# Altium schematic symbol library SCH - ARM Cortex - NXP LPC55S16JBD100.SchLib: 1 symbol
Pins are listed as number, name and electrical type; pins without a type are passive.

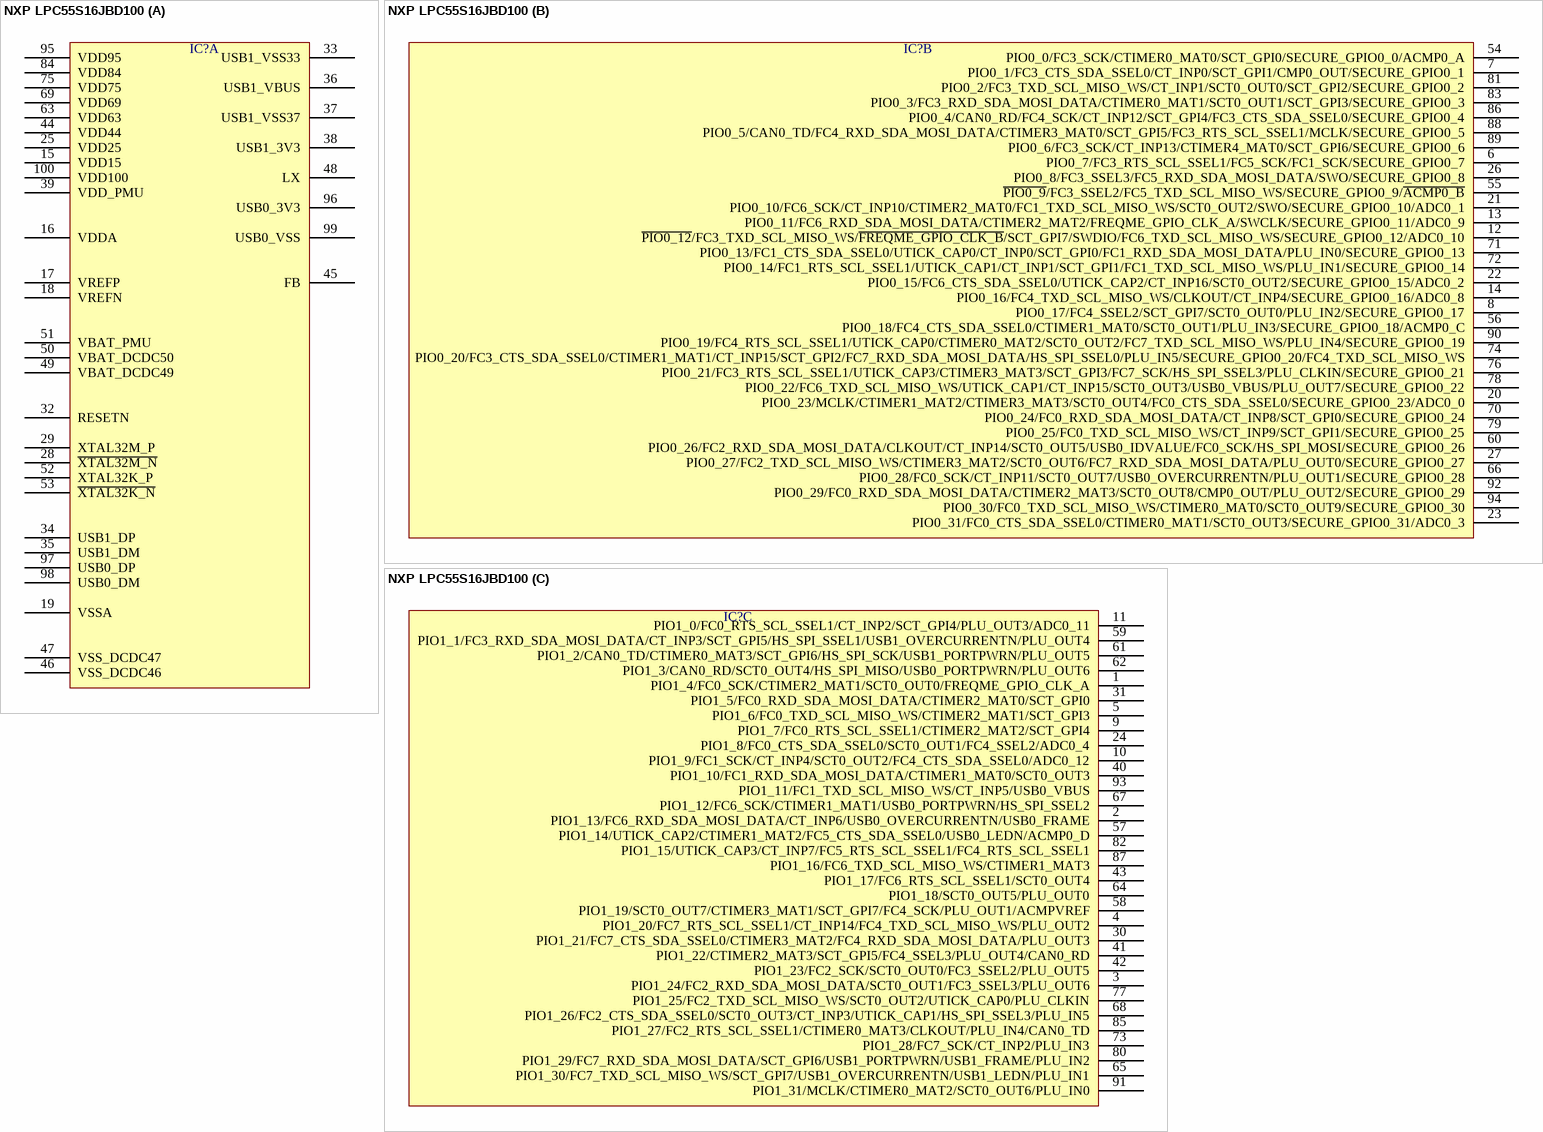
[diagram p0: symbol NXP LPC55S16JBD100]

## NXP LPC55S16JBD100
designator IC?  (value not drawn)
part A pins: 15 VDD15, 16 VDDA, 17 VREFP, 18 VREFN, 19 VSSA, 25 VDD25, 28 ~{XTAL32M_N}, 29 XTAL32M_P, 32 RESETN, 33 USB1_VSS33, 34 USB1_DP, 35 USB1_DM, 36 USB1_VBUS, 37 USB1_VSS37, 38 USB1_3V3, 39 VDD_PMU, 44 VDD44, 45 FB, 46 VSS_DCDC46, 47 VSS_DCDC47, 48 LX, 49 VBAT_DCDC49, 50 VBAT_DCDC50, 51 VBAT_PMU, 52 XTAL32K_P, 53 ~{XTAL32K_N}, 63 VDD63, 69 VDD69, 75 VDD75, 84 VDD84, 95 VDD95, 96 USB0_3V3, 97 USB0_DP, 98 USB0_DM, 99 USB0_VSS, 100 VDD100
part B pins: 6 PIO0_7/FC3_RTS_SCL_SSEL1/FC5_SCK/FC1_SCK/SECURE_GPIO0_7, 7 PIO0_1/FC3_CTS_SDA_SSEL0/CT_INP0/SCT_GPI1/CMP0_OUT/SECURE_GPIO0_1, 8 PIO0_17/FC4_SSEL2/SCT_GPI7/SCT0_OUT0/PLU_IN2/SECURE_GPIO0_17, 12 ~{PIO0_12}/FC3_TXD_SCL_MISO_WS/~{FREQME_GPIO_CLK_B}/SCT_GPI7/SWDIO/FC6_TXD_SCL_MISO_WS/SECURE_GPIO0_12/ADC0_10, 13 PIO0_11/FC6_RXD_SDA_MOSI_DATA/CTIMER2_MAT2/FREQME_GPIO_CLK_A/SWCLK/SECURE_GPIO0_11/ADC0_9, 14 PIO0_16/FC4_TXD_SCL_MISO_WS/CLKOUT/CT_INP4/SECURE_GPIO0_16/ADC0_8, 20 PIO0_23/MCLK/CTIMER1_MAT2/CTIMER3_MAT3/SCT0_OUT4/FC0_CTS_SDA_SSEL0/SECURE_GPIO0_23/ADC0_0, 21 PIO0_10/FC6_SCK/CT_INP10/CTIMER2_MAT0/FC1_TXD_SCL_MISO_WS/SCT0_OUT2/SWO/SECURE_GPIO0_10/ADC0_1, 22 PIO0_15/FC6_CTS_SDA_SSEL0/UTICK_CAP2/CT_INP16/SCT0_OUT2/SECURE_GPIO0_15/ADC0_2, 23 PIO0_31/FC0_CTS_SDA_SSEL0/CTIMER0_MAT1/SCT0_OUT3/SECURE_GPIO0_31/ADC0_3, 26 PIO0_8/FC3_SSEL3/FC5_RXD_SDA_MOSI_DATA/SWO/SECURE_GPIO0_8, 27 PIO0_27/FC2_TXD_SCL_MISO_WS/CTIMER3_MAT2/SCT0_OUT6/FC7_RXD_SDA_MOSI_DATA/PLU_OUT0/SECURE_GPIO0_27, 54 PIO0_0/FC3_SCK/CTIMER0_MAT0/SCT_GPI0/SECURE_GPIO0_0/ACMP0_A, 55 ~{PIO0_9}/FC3_SSEL2/FC5_TXD_SCL_MISO_WS/SECURE_GPIO0_9/~{ACMP0_B}, 56 PIO0_18/FC4_CTS_SDA_SSEL0/CTIMER1_MAT0/SCT0_OUT1/PLU_IN3/SECURE_GPIO0_18/ACMP0_C, 60 PIO0_26/FC2_RXD_SDA_MOSI_DATA/CLKOUT/CT_INP14/SCT0_OUT5/USB0_IDVALUE/FC0_SCK/HS_SPI_MOSI/SECURE_GPIO0_26, 66 PIO0_28/FC0_SCK/CT_INP11/SCT0_OUT7/USB0_OVERCURRENTN/PLU_OUT1/SECURE_GPIO0_28, 70 PIO0_24/FC0_RXD_SDA_MOSI_DATA/CT_INP8/SCT_GPI0/SECURE_GPIO0_24, 71 PIO0_13/FC1_CTS_SDA_SSEL0/UTICK_CAP0/CT_INP0/SCT_GPI0/FC1_RXD_SDA_MOSI_DATA/PLU_IN0/SECURE_GPIO0_13, 72 PIO0_14/FC1_RTS_SCL_SSEL1/UTICK_CAP1/CT_INP1/SCT_GPI1/FC1_TXD_SCL_MISO_WS/PLU_IN1/SECURE_GPIO0_14, 74 PIO0_20/FC3_CTS_SDA_SSEL0/CTIMER1_MAT1/CT_INP15/SCT_GPI2/FC7_RXD_SDA_MOSI_DATA/HS_SPI_SSEL0/PLU_IN5/SECURE_GPIO0_20/FC4_TXD_SCL_MISO_WS, 76 PIO0_21/FC3_RTS_SCL_SSEL1/UTICK_CAP3/CTIMER3_MAT3/SCT_GPI3/FC7_SCK/HS_SPI_SSEL3/PLU_CLKIN/SECURE_GPIO0_21, 78 PIO0_22/FC6_TXD_SCL_MISO_WS/UTICK_CAP1/CT_INP15/SCT0_OUT3/USB0_VBUS/PLU_OUT7/SECURE_GPIO0_22, 79 PIO0_25/FC0_TXD_SCL_MISO_WS/CT_INP9/SCT_GPI1/SECURE_GPIO0_25, 81 PIO0_2/FC3_TXD_SCL_MISO_WS/CT_INP1/SCT0_OUT0/SCT_GPI2/SECURE_GPIO0_2, 83 PIO0_3/FC3_RXD_SDA_MOSI_DATA/CTIMER0_MAT1/SCT0_OUT1/SCT_GPI3/SECURE_GPIO0_3, 86 PIO0_4/CAN0_RD/FC4_SCK/CT_INP12/SCT_GPI4/FC3_CTS_SDA_SSEL0/SECURE_GPIO0_4, 88 PIO0_5/CAN0_TD/FC4_RXD_SDA_MOSI_DATA/CTIMER3_MAT0/SCT_GPI5/FC3_RTS_SCL_SSEL1/MCLK/SECURE_GPIO0_5, 89 PIO0_6/FC3_SCK/CT_INP13/CTIMER4_MAT0/SCT_GPI6/SECURE_GPIO0_6, 90 PIO0_19/FC4_RTS_SCL_SSEL1/UTICK_CAP0/CTIMER0_MAT2/SCT0_OUT2/FC7_TXD_SCL_MISO_WS/PLU_IN4/SECURE_GPIO0_19, 92 PIO0_29/FC0_RXD_SDA_MOSI_DATA/CTIMER2_MAT3/SCT0_OUT8/CMP0_OUT/PLU_OUT2/SECURE_GPIO0_29, 94 PIO0_30/FC0_TXD_SCL_MISO_WS/CTIMER0_MAT0/SCT0_OUT9/SECURE_GPIO0_30
part C pins: 1 PIO1_4/FC0_SCK/CTIMER2_MAT1/SCT0_OUT0/FREQME_GPIO_CLK_A, 2 PIO1_13/FC6_RXD_SDA_MOSI_DATA/CT_INP6/USB0_OVERCURRENTN/USB0_FRAME, 3 PIO1_24/FC2_RXD_SDA_MOSI_DATA/SCT0_OUT1/FC3_SSEL3/PLU_OUT6, 4 PIO1_20/FC7_RTS_SCL_SSEL1/CT_INP14/FC4_TXD_SCL_MISO_WS/PLU_OUT2, 5 PIO1_6/FC0_TXD_SCL_MISO_WS/CTIMER2_MAT1/SCT_GPI3, 9 PIO1_7/FC0_RTS_SCL_SSEL1/CTIMER2_MAT2/SCT_GPI4, 10 PIO1_9/FC1_SCK/CT_INP4/SCT0_OUT2/FC4_CTS_SDA_SSEL0/ADC0_12, 11 PIO1_0/FC0_RTS_SCL_SSEL1/CT_INP2/SCT_GPI4/PLU_OUT3/ADC0_11, 24 PIO1_8/FC0_CTS_SDA_SSEL0/SCT0_OUT1/FC4_SSEL2/ADC0_4, 30 PIO1_21/FC7_CTS_SDA_SSEL0/CTIMER3_MAT2/FC4_RXD_SDA_MOSI_DATA/PLU_OUT3, 31 PIO1_5/FC0_RXD_SDA_MOSI_DATA/CTIMER2_MAT0/SCT_GPI0, 40 PIO1_10/FC1_RXD_SDA_MOSI_DATA/CTIMER1_MAT0/SCT0_OUT3, 41 PIO1_22/CTIMER2_MAT3/SCT_GPI5/FC4_SSEL3/PLU_OUT4/CAN0_RD, 42 PIO1_23/FC2_SCK/SCT0_OUT0/FC3_SSEL2/PLU_OUT5, 43 PIO1_17/FC6_RTS_SCL_SSEL1/SCT0_OUT4, 57 PIO1_14/UTICK_CAP2/CTIMER1_MAT2/FC5_CTS_SDA_SSEL0/USB0_LEDN/ACMP0_D, 58 PIO1_19/SCT0_OUT7/CTIMER3_MAT1/SCT_GPI7/FC4_SCK/PLU_OUT1/ACMPVREF, 59 PIO1_1/FC3_RXD_SDA_MOSI_DATA/CT_INP3/SCT_GPI5/HS_SPI_SSEL1/USB1_OVERCURRENTN/PLU_OUT4, 61 PIO1_2/CAN0_TD/CTIMER0_MAT3/SCT_GPI6/HS_SPI_SCK/USB1_PORTPWRN/PLU_OUT5, 62 PIO1_3/CAN0_RD/SCT0_OUT4/HS_SPI_MISO/USB0_PORTPWRN/PLU_OUT6, 64 PIO1_18/SCT0_OUT5/PLU_OUT0, 65 PIO1_30/FC7_TXD_SCL_MISO_WS/SCT_GPI7/USB1_OVERCURRENTN/USB1_LEDN/PLU_IN1, 67 PIO1_12/FC6_SCK/CTIMER1_MAT1/USB0_PORTPWRN/HS_SPI_SSEL2, 68 PIO1_26/FC2_CTS_SDA_SSEL0/SCT0_OUT3/CT_INP3/UTICK_CAP1/HS_SPI_SSEL3/PLU_IN5, 73 PIO1_28/FC7_SCK/CT_INP2/PLU_IN3, 77 PIO1_25/FC2_TXD_SCL_MISO_WS/SCT0_OUT2/UTICK_CAP0/PLU_CLKIN, 80 PIO1_29/FC7_RXD_SDA_MOSI_DATA/SCT_GPI6/USB1_PORTPWRN/USB1_FRAME/PLU_IN2, 82 PIO1_15/UTICK_CAP3/CT_INP7/FC5_RTS_SCL_SSEL1/FC4_RTS_SCL_SSEL1, 85 PIO1_27/FC2_RTS_SCL_SSEL1/CTIMER0_MAT3/CLKOUT/PLU_IN4/CAN0_TD, 87 PIO1_16/FC6_TXD_SCL_MISO_WS/CTIMER1_MAT3, 91 PIO1_31/MCLK/CTIMER0_MAT2/SCT0_OUT6/PLU_IN0, 93 PIO1_11/FC1_TXD_SCL_MISO_WS/CT_INP5/USB0_VBUS